# Altium schematic symbol library IN-S85TATRGB.Schlib: 1 symbol
Pins are listed as number, name and electrical type; pins without a type are passive.

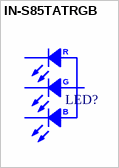
[diagram p0: symbol IN-S85TATRGB]

## IN-S85TATRGB
designator LED?
RGB Light Emitting Diode (LED)
pins: 1, 2, 3, 4
text: R; G; B